# Altium footprint library microsd.PcbLib: 1 footprints
Each footprint in its own frame and in the unit in brackets; x right, y up, seen from the top. Pads: shape width x height; smd on the part's side, far side on the other; paste and mask are expansions set on the pad; w line width, h text height; cw(c..) or ccw(c..) is an arc to the next point about the centre after c.
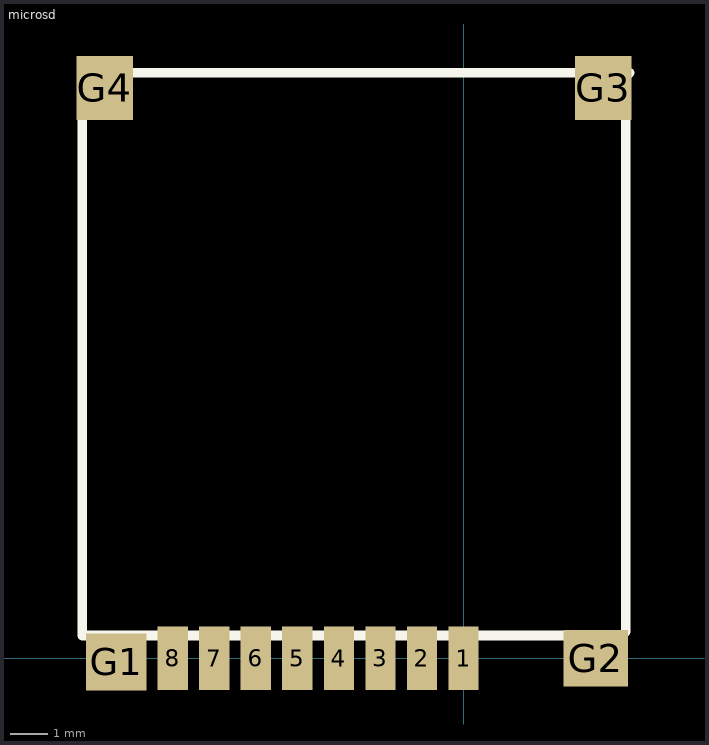
[diagram p0: the footprint, top view; thin cyan lines are the x and y axes]

## microsd [mm]
pads (12):
  rect 0.8x1.68 smd: 1(0,0) 2(-1.1,0) 3(-2.2,0) 4(-3.3,0) 5(-4.4,0) 6(-5.5,0) 7(-6.6,0) 8(-7.7,0)
  rect 1.6x1.5 smd: G1(-9.2,-0.1)
  rect 1.7x1.5 smd: G2(3.5,0)
  rect 1.5x1.7 smd: G3(3.7,15.1) G4(-9.5,15.1)
Top Overlay:
  lines w0.254: -10.1,0.6 -10.1,15.5 4.4,15.5 4.3,15.4 4.3,0.7 4.2,0.6 -10.1,0.6
3D body: height 1.73, standoff -0.07, extent -10.05,-0.5 4.25,15.5